# Altium footprint library Con_PcbLib.PcbLib: 98 footprints (part 3 of 7)
Each footprint in its own frame and in the unit in brackets; x right, y up, seen from the top. Pads: shape width x height; smd on the part's side, far side on the other; paste and mask are expansions set on the pad; w line width, h text height; cw(c..) or ccw(c..) is an arc to the next point about the centre after c.
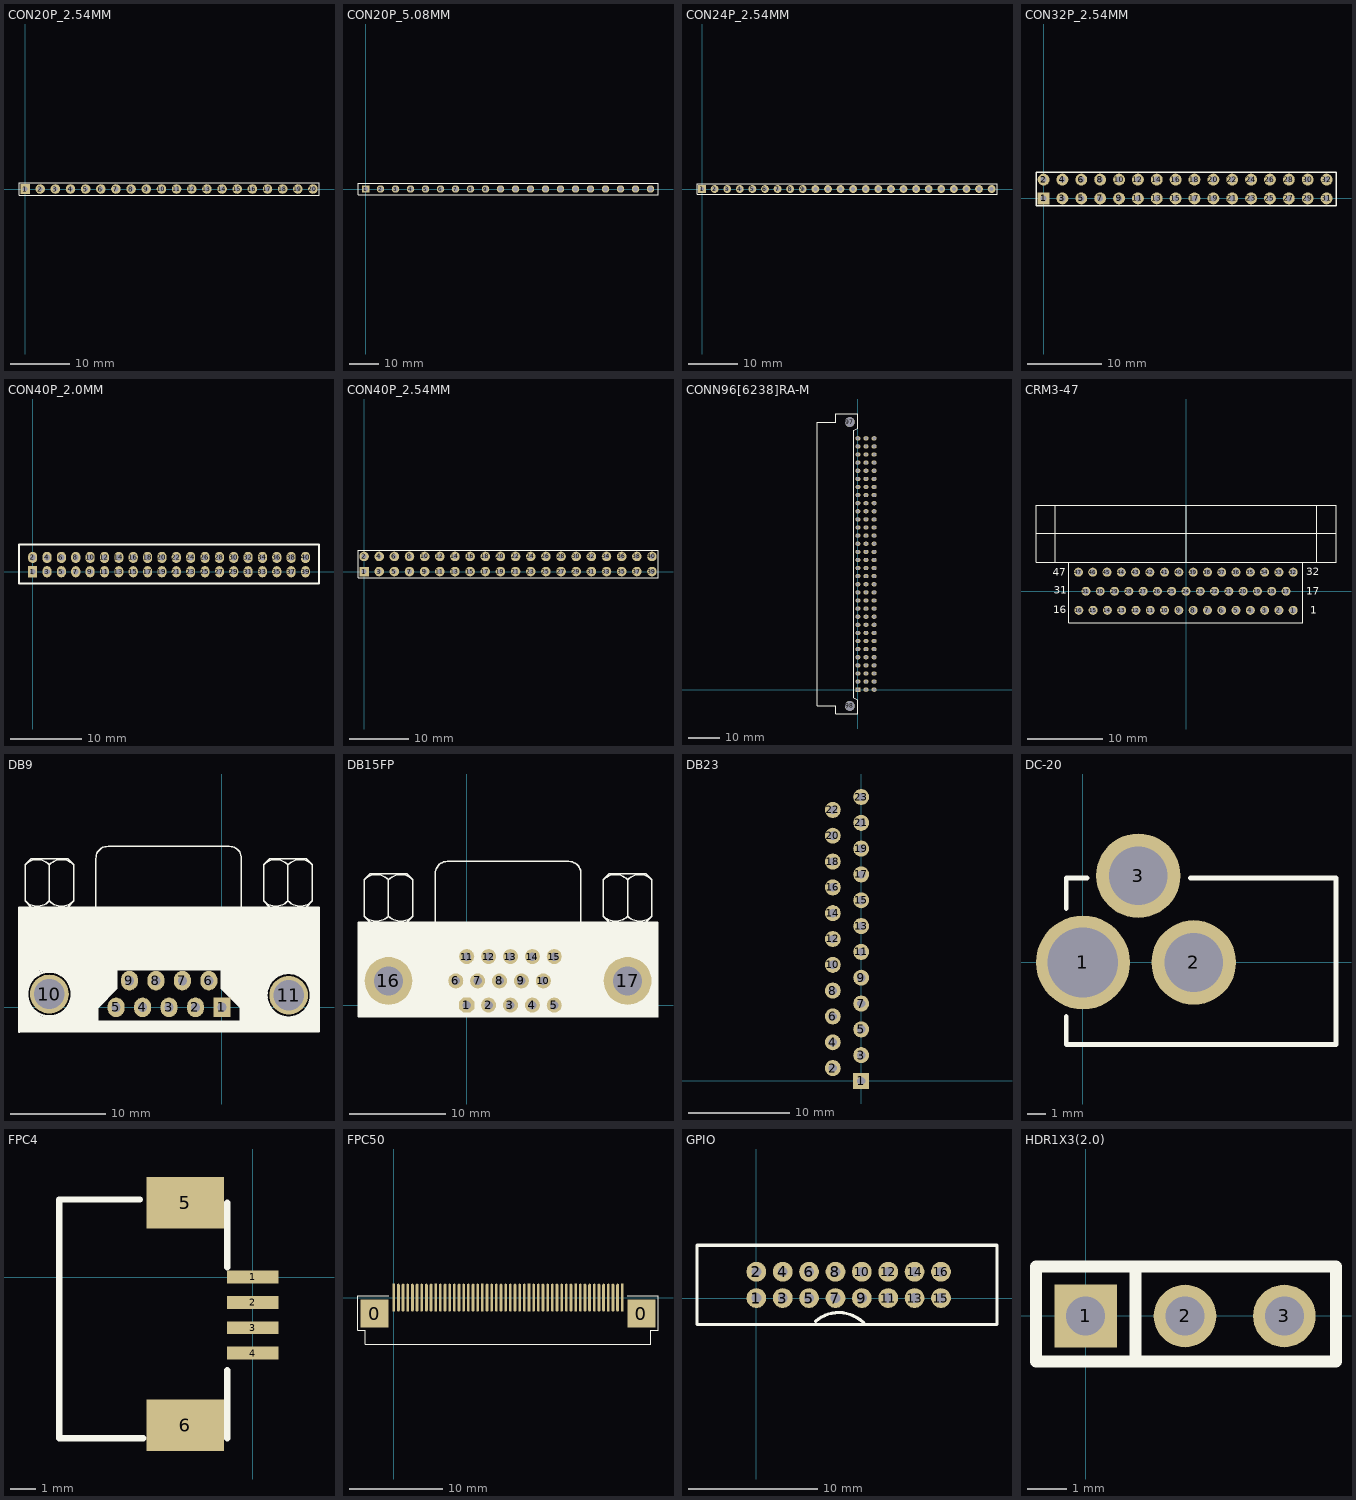
[diagram p2: the footprints below, top view; thin cyan lines are the x and y axes]

## CON20P_2.54MM [mm]
pads (20):
  rect 1.6x1.6 hole 0.8: 1(0,0)
  round 1.6 hole 0.8: 2(2.54,0) 3(5.08,0) 4(7.62,0) 5(10.16,0) 6(12.7,0) 7(15.24,0) 8(17.78,0) 9(20.32,0) 10(22.86,0) 11(25.4,0) 12(27.94,0) 13(30.48,0) 14(33.02,0) 15(35.56,0) 16(38.1,0) 17(40.64,0) 18(43.18,0) 19(45.72,0) 20(48.26,0)
Top Overlay:
  lines w0.2: -1.016,-1.016 49.276,-1.016 49.276,1.016 -1.016,1.016 -1.016,-1.016

## CON20P_5.08MM [mm]
pads (20):
  rect 2.54x2.54 hole 1.78: 1(0,0)
  round 2.54 hole 1.78: 2(5.08,0) 3(10.16,0) 4(15.24,0) 5(20.32,0) 6(25.4,0) 7(30.48,0) 8(35.56,0) 9(40.64,0) 10(45.72,0) 11(50.8,0) 12(55.88,0) 13(60.96,0) 14(66.04,0) 15(71.12,0) 16(76.2,0) 17(81.28,0) 18(86.36,0) 19(91.44,0) 20(96.52,0)
Top Overlay:
  lines w0.2: -2.54,-2 -2.54,2
  lines w0.254: -2.54,-2 99.06,-2 99.06,2 ; -2.54,2 99.024,2

## CON24P_2.54MM [mm]
pads (24):
  rect 1.6x1.6 hole 0.8: 1(0,0)
  round 1.6 hole 0.8: 2(2.54,0) 3(5.08,0) 4(7.62,0) 5(10.16,0) 6(12.7,0) 7(15.24,0) 8(17.78,0) 9(20.32,0) 10(22.86,0) 11(25.4,0) 12(27.94,0) 13(30.48,0) 14(33.02,0) 15(35.56,0) 16(38.1,0) 17(40.64,0) 18(43.18,0) 19(45.72,0) 20(48.26,0) 21(50.8,0) 22(53.34,0) 23(55.88,0) 24(58.42,0)
Top Overlay:
  lines w0.2: -1.016,-1.016 -1.016,1.016 59.5,1.016 59.5,-1.016 -1.016,-1.016

## CON32P_2.54MM [mm]
height 8.5
pads (32):
  rect 1.6x1.6 hole 0.8: 1(0,0)
  round 1.6 hole 0.8: 2(0,2.54) 3(2.54,0) 4(2.54,2.54) 5(5.08,0) 6(5.08,2.54) 7(7.62,0) 8(7.62,2.54) 9(10.16,0) 10(10.16,2.54) 11(12.7,0) 12(12.7,2.54) 13(15.24,0) 14(15.24,2.54) 15(17.78,0) 16(17.78,2.54) 17(20.32,0) 18(20.32,2.54) 19(22.86,0) 20(22.86,2.54) 21(25.4,0) 22(25.4,2.54) 23(27.94,0) 24(27.94,2.54) 25(30.48,0) 26(30.48,2.54) 27(33.02,0) 28(33.02,2.54) 29(35.56,0) 30(35.56,2.54) 31(38.1,0) 32(38.1,2.54)
Top Overlay:
  lines w0.2: -1.016,-1.016 39.37,-1.016 39.37,1.524 39.37,3.556 -1.016,3.556 -1.016,1.016 -1.016,-1.016

## CON40P_2.0MM [mm]
height 20
pads (40):
  rect 1.27x1.57 hole 0.8: 1(0,0)
  oval 1.27x1.57 hole 0.8: 2(0,2) 3(2,0) 4(2,2) 5(4,0) 6(4,2) 7(6,0) 8(6,2) 9(8,0) 10(8,2) 11(10,0) 12(10,2) 13(12,0) 14(12,2) 15(14,0) 16(14,2) 17(16,0) 18(16,2) 19(18,0) 20(18,2) 21(20,0) 22(20,2) 23(22,0) 24(22,2) 25(24,0) 26(24,2) 27(26,0) 28(26,2) 29(28,0) 30(28,2) 31(30,0) 32(30,2) 33(32,0) 34(32,2) 35(34,0) 36(34,2) 37(36,0) 38(36,2) 39(38,0) 40(38,2)
Top Overlay:
  lines w0.254: -1.905,-1.651 -1.905,3.175 -1.905,3.81 39.878,3.81 39.878,-1.651 -1.905,-1.651

## CON40P_2.54MM [mm]
height 8.5
pads (40):
  rect 1.6x1.6 hole 0.8: 1(0,0)
  round 1.6 hole 0.8: 2(0,2.54) 3(2.54,0) 4(2.54,2.54) 5(5.08,0) 6(5.08,2.54) 7(7.62,0) 8(7.62,2.54) 9(10.16,0) 10(10.16,2.54) 11(12.7,0) 12(12.7,2.54) 13(15.24,0) 14(15.24,2.54) 15(17.78,0) 16(17.78,2.54) 17(20.32,0) 18(20.32,2.54) 19(22.86,0) 20(22.86,2.54) 21(25.4,0) 22(25.4,2.54) 23(27.94,0) 24(27.94,2.54) 25(30.48,0) 26(30.48,2.54) 27(33.02,0) 28(33.02,2.54) 29(35.56,0) 30(35.56,2.54) 31(38.1,0) 32(38.1,2.54) 33(40.64,0) 34(40.64,2.54) 35(43.18,0) 36(43.18,2.54) 37(45.72,0) 38(45.72,2.54) 39(48.26,0) 40(48.26,2.54)
Top Overlay:
  lines w0.2: -1.016,-1.016 49.276,-1.016 49.276,1.524 49.276,3.556 -1.016,3.556 -1.016,1.016 -1.016,-1.016

## CONN96[6238]RA-M [mil]
pads (98):
  round 120 hole 120 unplated: 97(-100,3300) 98(-100,-200)
  rect 62x51.18 hole 42: A1(0,0)
  oval 62x51.18 hole 42: A2(0,100) A3(0,200) A4(0,300) A5(0,400) A6(0,500) A7(0,600) A8(0,700) A9(0,800) A10(0,900) A11(0,1000) A12(0,1100) A13(0,1200) A14(0,1300) A15(0,1400) A16(0,1500) A17(0,1600) A18(0,1700) A19(0,1800) A20(0,1900) A21(0,2000) A22(0,2100) A23(0,2200) A24(0,2300) A25(0,2400) A26(0,2500) A27(0,2600) A28(0,2700) A29(0,2800) A30(0,2900) A31(0,3000) A32(0,3100) B1(100,0) B2(100,100) B3(100,200) B4(100,300) B5(100,400) B6(100,500) B7(100,600) B8(100,700) B9(100,800) B10(100,900) B11(100,1000) B12(100,1100) B13(100,1200) B14(100,1300) B15(100,1400) B16(100,1500) B17(100,1600) B18(100,1700) B19(100,1800) B20(100,1900) B21(100,2000) B22(100,2100) B23(100,2200) B24(100,2300) B25(100,2400) B26(100,2500) B27(100,2600) B28(100,2700) B29(100,2800) B30(100,2900) B31(100,3000) B32(100,3100) C1(200,0) C2(200,100) C3(200,200) C4(200,300) C5(200,400) C6(200,500) C7(200,600) C8(200,700) C9(200,800) C10(200,900) C11(200,1000) C12(200,1100) C13(200,1200) C14(200,1300) C15(200,1400) C16(200,1500) C17(200,1600) C18(200,1700) C19(200,1800) C20(200,1900) C21(200,2000) C22(200,2100) C23(200,2200) C24(200,2300) C25(200,2400) C26(200,2500) C27(200,2600) C28(200,2700) C29(200,2800) C30(200,2900) C31(200,3000) C32(200,3100)
Top Overlay:
  lines w10: -500,-200 -500,3300 -275,3300 -275,3400 0,3400 0,3225 -50,3200 -50,-100 0,-125 0,-300 -275,-300 -275,-200 -500,-200

## CRM3-47 [mm]
pads (47):
  round 1.2 hole 0.8: 1(14.287,-2.54) 2(12.383,-2.54) 3(10.477,-2.54) 4(8.572,-2.54) 5(6.667,-2.54) 6(4.763,-2.54) 7(2.857,-2.54) 8(0.952,-2.54) 9(-0.953,-2.54) 10(-2.857,-2.54) 11(-4.763,-2.54) 12(-6.667,-2.54) 13(-8.572,-2.54) 14(-10.477,-2.54) 15(-12.383,-2.54) 16(-14.287,-2.54) 17(13.335,0) 18(11.43,0) 19(9.525,0) 20(7.62,0) 21(5.715,0) 22(3.81,0) 23(1.905,0) 24(0,0) 25(-1.905,0) 26(-3.81,0) 27(-5.715,0) 28(-7.62,0) 29(-9.525,0) 30(-11.43,0) 31(-13.335,0) 32(14.287,2.54) 33(12.383,2.54) 34(10.477,2.54) 35(8.572,2.54) 36(6.667,2.54) 37(4.763,2.54) 38(2.857,2.54) 39(0.953,2.54) 40(-0.953,2.54) 41(-2.857,2.54) 42(-4.813,2.54) 43(-6.718,2.54) 44(-8.623,2.54) 45(-10.528,2.54) 46(-12.433,2.54) 47(-14.338,2.54)
Top Layer:
  lines w0.127: -17.45,11.481 0,11.481
Top Overlay:
  lines w0.127: -19.99,7.722 0,7.722 19.99,7.722 ; -15.596,3.861 -15.596,-4.216 0,-4.216 15.57,-4.216 15.57,3.861 ; -17.45,3.861 0,3.861 ; -17.45,3.861 -19.99,3.861 -19.99,11.481 -17.45,11.481 ; -17.45,3.861 -17.45,11.481 ; -17.45,3.861 -17.45,11.481 ; -17.45,11.481 0,11.481 ; 0,3.861 0,11.481 ; 0,3.861 19.99,3.861 19.99,11.481 17.45,11.481 ; 0,3.861 17.45,3.861 17.45,11.481 ; 0,11.481 17.45,11.481
  text "47" at -17.755,2.083 h1
  text "32" at 16.027,2.159 h1
  text "17" at 16.002,-0.457 h1
  text "1" at 16.586,-3.023 h1
  text "31" at -17.602,-0.33 h1
  text "16" at -17.704,-2.946 h1

## DB9 [mil]
pads (11):
  rect 70x80 hole 38: 1(0,0)
  oval 70x80 hole 38: 2(-109,0) 3(-218,0) 4(-327,0) 5(-436,0) 6(-54,110) 7(-163,110) 8(-272,110) 9(-381,110)
  round 160 hole 125: 10(-711,55) 11(275,50)
Top Overlay:
  circle w11.81: c275,50 r122.17
  circle w11.81: c275,50 r112.33
  circle w11.81: c275,50 r102.48
  circle w11.81: c275,50 r92.64
  circle w11.81: c-711,55 r122.17
  circle w11.81: c-711,55 r112.33
  circle w11.81: c-711,55 r102.48
  circle w11.81: c-711,55 r92.64
  rectangle: -509.34,11.81 -497.53,23.62
  rectangle: -513.54,7.86 -505.67,23.61
  rectangle: -517.21,3.94 -509.34,23.62
  rectangle: -485.72,35.43 -477.84,43.31
  rectangle: -489.65,31.5 -481.78,47.24
  rectangle: -493.59,27.56 -485.72,47.24
  rectangle: -497.53,23.62 -489.65,43.31
  rectangle: -469.97,51.18 -458.16,66.93
  rectangle: -474.18,47.23 -466.3,66.92
  rectangle: -477.84,43.31 -469.97,62.99
  rectangle: -446.35,74.8 -438.47,82.68
  rectangle: -454.22,66.93 -446.35,74.8
  rectangle: -454.49,70.86 -442.68,82.67
  rectangle: -462.36,62.98 -450.55,82.67
  rectangle: 73.34,3.94 81.21,11.81
  rectangle: 65.19,7.86 80.94,19.68
  rectangle: 61.26,15.74 80.94,23.61
  rectangle: 49.45,23.61 65.19,35.42
  rectangle: 41.84,31.5 61.53,43.31
  rectangle: 33.7,43.3 41.57,51.17
  rectangle: 30.03,47.24 45.78,51.18
  rectangle: 21.89,51.17 41.57,62.98
  rectangle: 10.08,62.98 21.89,74.79
  rectangle: 6.14,70.86 21.89,82.67
  rectangle: 2.2,74.79 10.08,82.67
  rectangle: 6.14,74.79 14.01,82.67
  rectangle: 372.55,78.74 400,127.95
  rectangle: 342.75,118.1 399.73,167.31
  rectangle: 165.59,127.94 214.8,167.31
  rectangle: -836.27,118.1 -798.98,157.47
  rectangle: -798.71,147.64 -769.18,177.17
  rectangle: -808.55,137.8 -788.87,157.48
  rectangle: -836,88.58 -808.55,157.48
  rectangle: -836,157.48 400,410
  rectangle: -473.91,59.06 -454.22,78.74
  rectangle: -523.39,19.4 -494.14,39.36
  rectangle: -523.12,39.37 -473.91,78.74
  rectangle: -572.6,78.73 -434.81,177.16
  rectangle: -700.28,157.48 -641.23,177.17
  rectangle: -641.5,127.94 -572.6,177.16
  rectangle: -631.39,-59.05 -592.02,-19.68
  rectangle: -611.97,-39.38 -513.55,157.47
  rectangle: 57.59,19.69 77.28,39.37
  rectangle: 37.64,39.36 77.01,59.05
  rectangle: 17.95,59.05 77.01,88.57
  rectangle: 175.43,-68.91 214.8,-29.54
  rectangle: 77.28,-68.9 185.54,88.58
  rectangle: -1.73,78.73 185.27,157.47
  rectangle: 372.28,-39.38 399.73,9.83
  rectangle: 333.18,-78.74 400,-29.53
  rectangle: 77.01,-100.01 399.73,-59.06
  rectangle: -513.27,-100 77.28,-59.05
  rectangle: -749.5,-100 -513.28,-39.37
  rectangle: -769.45,-100.01 -749.77,-39.38
  rectangle: -798.71,-100 -769.18,-39.37
  rectangle: -818.66,-100.01 -789.14,-19.69
  rectangle: -836.27,-100.01 -808.82,9.83
  lines w6: -836.09,413.35 397.24,413.35 ; -811.17,438.27 ccw(c-761.09,488.35) -711,438.27 ; -811.17,588.44 cw(c-761.09,538.35) -711,588.44 ; -786.09,413.35 -811.09,438.35 -811.09,588.35 -786.09,613.35 -636.09,613.35 -611.09,588.35 -611.09,438.35 -636.09,413.35 ; -711.17,438.27 ccw(c-661.09,488.35) -611,438.27 ; -711.17,588.44 cw(c-661.09,538.35) -611,588.44 ; -711.09,438.35 -711.09,588.35 ; -519.42,413.35 -519.42,613.35 cw(c-469.42,613.35) -469.42,663.35 30.58,663.35 cw(c30.58,613.35) 80.58,613.35 80.58,413.35 ; 172.16,438.27 ccw(c222.24,488.35) 272.33,438.27 ; 172.16,588.44 cw(c222.24,538.35) 272.33,588.44 ; 197.24,413.35 172.24,438.35 172.24,588.35 197.24,613.35 347.24,613.35 372.24,588.35 372.24,438.35 347.24,413.35 ; 272.16,438.27 ccw(c322.24,488.35) 372.33,438.27 ; 272.16,588.44 cw(c322.24,538.35) 372.33,588.44 ; 272.24,438.35 272.24,588.35
  lines w8: -836,-100 400,-100 400,410
  lines w10: -836,-100 -836,410 400,410 ; -513.28,-59.05 -513.28,0 -434.54,78.74 -434.54,157.48 -1.47,157.48 -1.47,78.74 77.28,0 77.28,-59.05 -218,-59.05 -513.28,-59.05

## DB15FP [mil]
pads (17):
  oct 62x62 hole 35: 1(0,0)
  round 62 hole 35: 2(90,0) 3(180,0) 4(270,0) 5(360,0) 6(-45,100) 7(45,100) 8(135,100) 9(225,100) 10(315,100) 11(0,200) 12(90,200) 13(180,200) 14(270,200) 15(360,200)
  round 196.67 hole 118.33: 16(-321.67,100) 17(661.67,100)
Top Overlay:
  rectangle: -445.08,-44.84 781.92,338.16
  lines w6: -447.08,340.16 -446.67,-46.84 786.67,-46.84 786.67,341.16 -446.67,341.16 ; -446.67,307.83 786.67,307.83 ; -421.75,366.07 ccw(c-371.67,416.16) -321.58,366.07 ; -421.75,516.25 cw(c-371.67,466.16) -321.58,516.25 ; -396.67,341.16 -421.67,366.16 -421.67,516.16 -396.67,541.16 -246.67,541.16 -221.67,516.16 -221.67,366.16 -246.67,341.16 ; -321.75,366.07 ccw(c-271.67,416.16) -221.58,366.07 ; -321.75,516.25 cw(c-271.67,466.16) -221.58,516.25 ; -321.67,366.16 -321.67,516.16 ; -230.41,280.16 -447.08,280.16 785.67,280.16 ; -230.08,-46.84 -230,40 ; -230.08,276.16 -230,160 ; -130,341.16 -130,541.16 cw(c-80,541.16) -80,591.16 420,591.16 cw(c420,541.16) 470,541.16 470,341.16 ; 561.58,366.07 ccw(c611.67,416.16) 661.75,366.07 ; 561.58,516.25 cw(c611.67,466.16) 661.75,516.25 ; 569.92,-46.84 570,38 ; 569.92,281.16 570,164 ; 586.67,341.16 561.67,366.16 561.67,516.16 586.67,541.16 736.67,541.16 761.67,516.16 761.67,366.16 736.67,341.16 ; 661.58,366.07 ccw(c711.67,416.16) 761.75,366.07 ; 661.58,516.25 cw(c711.67,466.16) 761.75,516.25 ; 661.67,366.16 661.67,516.16
  text "1" at -70,-20 h50
  text "6" at -130,80 h50
  text "11" at -110,180 h50
  text "15" at 430,180 h50
  text "10" at 370,80 h50
  text "5" at 430,-20 h50

## DB23 [mil]
pads (23):
  rect 62x62 hole 32: 1(0,0)
  round 62 hole 32: 2(-110,50) 3(0,100) 4(-110,150) 5(0,200) 6(-110,250) 7(0,300) 8(-110,350) 9(0,400) 10(-110,450) 11(0,500) 12(-110,550) 13(0,600) 14(-110,650) 15(0,700) 16(-110,750) 17(0,800) 18(-110,850) 19(0,900) 20(-110,950) 21(0,1000) 22(-110,1050) 23(0,1100)

## DC-20 [mil]
pads (3):
  round 200 hole 150: 1(0,0)
  round 180 hole 125: 2(236.22,0) 3(118.11,185.04)
Top Overlay:
  lines w10: -35.63,-115 -35.63,-175 539.37,-175 539.37,180 229.37,180 ; -35.63,115 -35.63,180 9.37,180

## FPC4 [mil]
pads (6):
  rect 80x20 smd: 1(0.21,0.2) 2(0.21,-39.17) 3(0.21,-78.54) 4(0.21,-117.91)
  rect 120x80 smd: 5(-104.79,115.2) 6(-104.79,-229.8)
Top Overlay:
  lines w10: -174.79,120.2 -299.79,120.2 -299.79,-249.8 -169.79,-249.8 ; -39.79,-249.8 -39.79,-144.8 ; -39.79,15.2 -39.79,115.2

## FPC50 [mm]
pads (52):
  rect 3x3 smd: 0(-2.045,-1.709) 0(26.555,-1.709)
  rect 0.3x3 smd: 1(24.505,-0.009) 11(19.505,-0.009) 21(14.505,-0.009) 31(9.505,-0.009) 41(4.505,-0.009) 50(0.005,-0.009)
  oval 0.3x3 smd: 2(24.005,-0.009) 3(23.505,-0.009) 4(23.005,-0.009) 5(22.505,-0.009) 6(22.005,-0.009) 7(21.505,-0.009) 8(21.005,-0.009) 9(20.505,-0.009) 10(20.005,-0.009) 12(19.005,-0.009) 13(18.505,-0.009) 14(18.005,-0.009) 15(17.505,-0.009) 16(17.005,-0.009) 17(16.505,-0.009) 18(16.005,-0.009) 19(15.505,-0.009) 20(15.005,-0.009) 22(14.005,-0.009) 23(13.505,-0.009) 24(13.005,-0.009) 25(12.505,-0.009) 26(12.005,-0.009) 27(11.505,-0.009) 28(11.005,-0.009) 29(10.505,-0.009) 30(10.005,-0.009) 32(9.005,-0.009) 33(8.505,-0.009) 34(8.005,-0.009) 35(7.505,-0.009) 36(7.005,-0.009) 37(6.505,-0.009) 38(6.005,-0.009) 39(5.505,-0.009) 40(5.005,-0.009) 42(4.005,-0.009) 43(3.505,-0.009) 44(3.005,-0.009) 45(2.505,-0.009) 46(2.005,-0.009) 47(1.505,-0.009) 48(1.005,-0.009) 49(0.505,-0.009)
Top Overlay:
  lines w0.127: -0.52,0.191 -3.82,0.191 -3.82,-3.509 -3.02,-3.509 -3.02,-5.009 27.53,-5.009 27.53,-3.509 28.33,-3.509 28.33,0.191 25.03,0.191

## GPIO [mil]
pads (16):
  round 60 hole 30: 1(0,0) 2(0,80) 3(80,0) 4(80,80) 5(160,0) 6(160,80) 7(240,0) 8(240,80) 9(320,0) 10(320,80) 11(400,0) 12(400,80) 13(480,0) 14(480,80) 15(560,0) 16(560,80)
Top Overlay:
  lines w10: 180,-70 cw(c250,-150) 330,-80 ; -180,-80 730,-80 730,160 -180,160 -180,-80

## HDR1X3(2.0) [mm]
pads (3):
  rect 1.6x1.6 hole 1: 1(0,0)
  round 1.6 hole 1: 2(2.54,0) 3(5.08,0)
Top Overlay:
  lines w0.305: 1.27,-1.168 1.27,1.27 ; 6.401,-1.168 6.401,1.27 ; -1.27,-1.168 -1.27,1.27 ; -1.27,-1.168 6.35,-1.168 -1.27,-1.168 ; -1.27,1.27 6.325,1.27 -1.27,1.27